# Altium footprint library New_Parts_temp.PcbLib: 5 footprints
Each footprint in its own frame and in the unit in brackets; x right, y up, seen from the top. Pads: shape width x height; smd on the part's side, far side on the other; paste and mask are expansions set on the pad; w line width, h text height; cw(c..) or ccw(c..) is an arc to the next point about the centre after c.
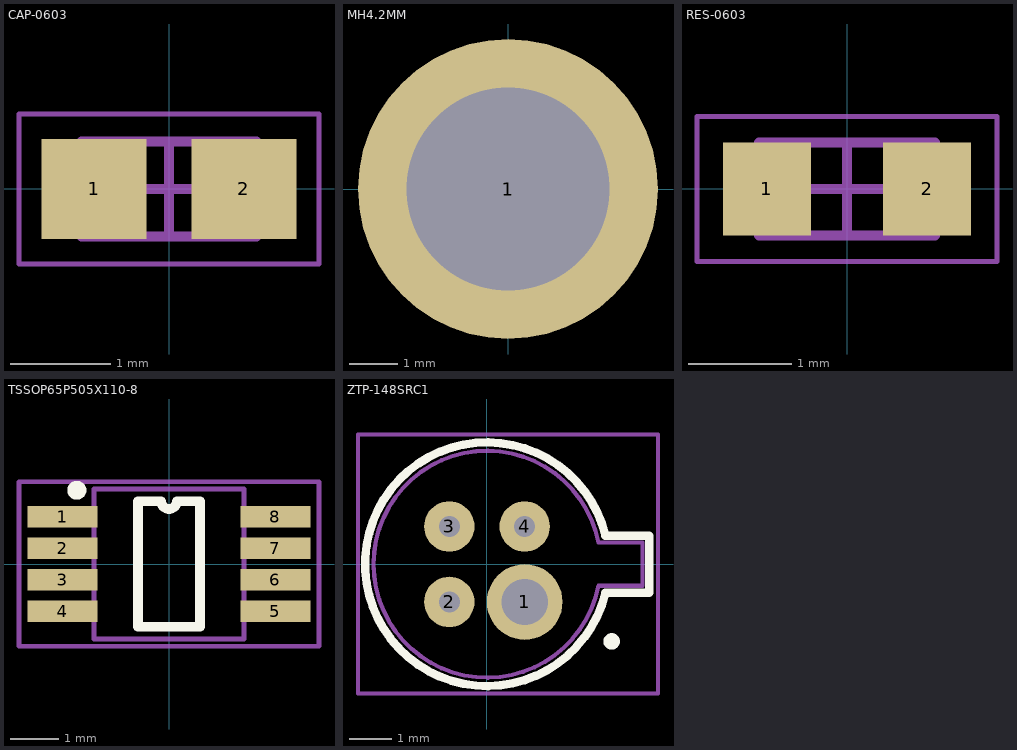
[diagram p0: the footprints below, top view; thin cyan lines are the x and y axes]

## CAP-0603 [mm] "Chip Capacitor, 2-Leads, Body 1.60x0.80mm, IPC Medium Density"
height 0.9
pads (2):
  rect 1.05x1 smd: 1(-0.75,0) 2(0.75,0)
Mechanical 13:
  lines w0.1: -0.875,-0.475 -0.875,0.475 0.875,0.475 0.875,-0.475 -0.875,-0.475
Mechanical 15:
  lines w0.05: -1.5,-0.75 -1.5,0.75 1.5,0.75 1.5,-0.75 -1.5,-0.75
  lines w0.1: -0.475,0 0.475,0 ; 0,-0.475 0,0.475
3D body "CAPC1608X09N.step": height 0.9, standoff 0, extent -0.875,-0.475 0.875,0.475

## MH4.2MM [mm] "Mounting Hole, 4.2mm"
pads (1):
  round 6.2 hole 4.2: 1(0,0)

## RES-0603 [mm] "Chip Resistor, 2-Leads, Body 1.60x0.80mm, IPC Medium Density"
height 0.55
pads (2):
  rect 0.85x0.9 smd: 1(-0.775,0) 2(0.775,0)
Mechanical 13:
  lines w0.1: -0.85,-0.45 0.85,-0.45 0.85,0.45 -0.85,0.45 -0.85,-0.45
Mechanical 15:
  lines w0.05: -1.45,-0.7 1.45,-0.7 1.45,0.7 -1.45,0.7 -1.45,-0.7
  lines w0.1: -0.45,0 0.45,0 ; 0,-0.45 0,0.45
3D body "RESC1608X06N.step": height 0.55, standoff 0, extent -0.85,-0.45 0.85,0.45

## TSSOP65P505X110-8 [mm] "VSSOP, 8-Leads, Body 3.1X3.1mm, Pitch 0.65mm, IPC Medium Density"
height 1.1
pads (8):
  rect 1.45x0.45 smd: 1(-2.2,0.975) 2(-2.2,0.325) 3(-2.2,-0.325) 4(-2.2,-0.975) 5(2.2,-0.975) 6(2.2,-0.325) 7(2.2,0.325) 8(2.2,0.975)
Top Overlay:
  circle w0.2: c-1.905,1.524 r0.096
  lines w0.2: -0.64,-1.3 0.64,-1.3 0.64,1.3 0.162,1.3 cw(c0,1.3) -0.162,1.3 -0.64,1.3 -0.64,-1.3
Mechanical 13:
  lines w0.1: -1.55,-1.55 1.55,-1.55 1.55,1.55 -1.55,1.55 -1.55,-1.55
Mechanical 15:
  lines w0.1: -3.1,-1.7 3.1,-1.7 3.1,1.7 -3.1,1.7 -3.1,-1.7
3D body: height 0.95, standoff 0.05, extent -1.55,-1.55 1.55,1.55

## ZTP-148SRC1 [mm] "IR Temperature Sensor"
height 2.8
pads (4):
  round 1.8 hole 1.1: 1(0.898,-0.898)
  round 1.2 hole 0.5: 2(-0.898,-0.898) 3(-0.898,0.898) 4(0.898,0.898)
Top Overlay:
  circle w0.2: c2.965,-1.836 r0.096
  lines w0.2: 2.819,-0.68 cw(c0,0) 2.819,0.68 ; 2.821,-0.68 3.86,-0.68 3.86,0.68 2.821,0.68
Mechanical 13:
  lines w0.1: 2.651,-0.513 cw(c0,0) 2.651,0.513 ; 2.652,-0.514 3.7,-0.514 3.7,0.513 2.652,0.513
Mechanical 15:
  lines w0.1: -3.07,-3.08 -3.07,3.09 4.07,3.09 4.07,-3.08 -3.07,-3.08
3D body: height 2.8, standoff 0, extent -2.7,-2.7 2.7,2.7